# Altium schematic symbol library QUTMS_OptoIsolator.SchLib: 1 symbol
Pins are listed as number, name and electrical type; pins without a type are passive.

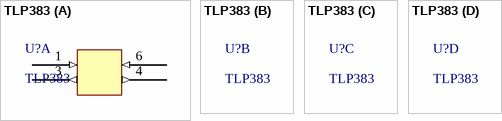
[diagram p0: symbol TLP383]

## TLP383
designator U?
part A pins: 1 (in), 3 (out), 4 (out), 6 (in)